# Altium footprint library LC12S.PcbLib: 7 footprints
Each footprint in its own frame and in the unit in brackets; x right, y up, seen from the top. Pads: shape width x height; smd on the part's side, far side on the other; paste and mask are expansions set on the pad; w line width, h text height; cw(c..) or ccw(c..) is an arc to the next point about the centre after c.
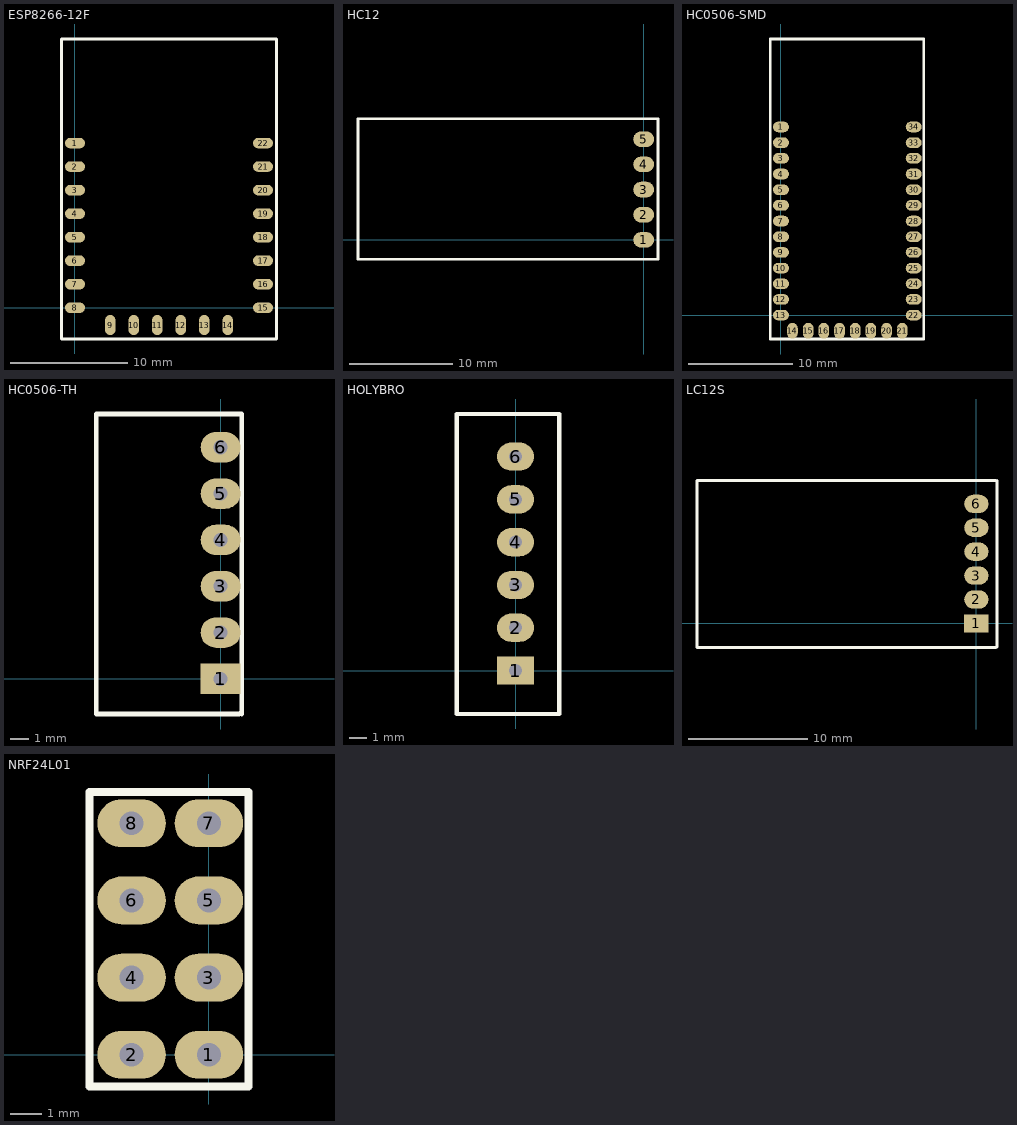
[diagram p0: the footprints below, top view; thin cyan lines are the x and y axes]

## ESP8266-12F [mm]
pads (22):
  oval 1.7x0.9 smd: 1(0,14) 2(0,12) 3(0,10) 4(0,8) 5(0,6) 6(0,4) 7(0,2) 8(0,0) 15(16,0) 16(16,2) 17(16,4) 18(16,6) 19(16,8) 20(16,10) 21(16,12) 22(16,14)
  oval 0.9x1.7 smd: 9(3,-1.48) 10(5,-1.48) 11(7,-1.48) 12(9,-1.48) 13(11,-1.48) 14(13,-1.48)
Top Overlay:
  lines w0.254: -1.143,-2.667 -1.143,22.86 17.145,22.86 17.145,-2.667 -1.143,-2.667
3D body "EPS8266 ESP-12F.STEP": height 2.65, standoff -0.04, extent -0.004,-1.591 16.006,22.414
3D body: height 0.25, standoff 0, extent 3.175,13.716 3.175,13.716

## HC12 [mil]
pads (5):
  oval 80x60 smd: 1(0,0) 2(0,96.46) 3(0,192.91) 4(0,289.37) 5(0,385.83)
Top Overlay:
  lines w10: -1095,-75 -1095,465 55,465 55,-75 40,-75 -1095,-75
3D body "HC-12 SI4463 WIRELESS SERIAL MODULE.STEP": height 1019.68, standoff 0, extent -1089.12,-66.81 1.34,456.81
3D body: height 10, standoff 0, extent -220,320 -220,320
3D body: height 10, standoff 0, extent -230,335 -230,335
3D body: height 10, standoff 0, extent 10,10 10,10
3D body: height 10, standoff 0, extent -880,440 -880,440
3D body: height 10, standoff 0, extent -975,455 -975,455

## HC0506-SMD [mil]
pads (34):
  oval 60x40 smd: 1(0,708.66) 2(0,649.61) 3(0,590.55) 4(0,531.5) 5(0,472.44) 6(0,413.39) 7(0,354.33) 8(0,295.28) 9(0,236.22) 10(0,177.17) 11(0,118.11) 12(0,59.06) 13(0,0) 22(500,0) 23(500,59.06) 24(500,118.11) 25(500,177.17) 26(500,236.22) 27(500,295.28) 28(500,354.33) 29(500,413.39) 30(500,472.44) 31(500,531.5) 32(500,590.55) 33(500,649.61) 34(500,708.66)
  oval 40x60 smd: 14(43.31,-59.06) 15(102.36,-59.06) 16(161.42,-59.06) 17(220.47,-59.06) 18(279.53,-59.06) 19(338.58,-59.06) 20(397.64,-59.06) 21(456.69,-59.06)
Top Overlay:
  lines w10: -40,-90 537.5,-90 537.5,1032.5 537.5,1040 -25,1040 -40,1040 -40,-90
3D body "Bluetooth HC-06_.STEP": height 92.52, standoff 0, extent -26.97,-71.38 525,1031.38

## HC0506-TH [mil]
pads (6):
  rect 85x65 hole 30: 1(0,0)
  oval 85x65 hole 30: 2(0,98.82) 3(0,197.64) 4(0,296.46) 5(0,395.28) 6(0,494.09)
Top Overlay:
  lines w10: -265,-75 -265,565 45,565 45,-75 45,-70 40,-75 -265,-75
3D body: height 10, standoff 0, extent -325,480 -325,480
3D body "HC-05.STEP": height 1437.01, standoff -239.5, extent -259.37,-69.95 -1.5,559.97

## HOLYBRO [mil]
pads (6):
  rect 85x65 hole 30: 1(0,0)
  oval 85x65 hole 30: 2(0,98.43) 3(0,196.85) 4(0,295.28) 5(0,393.7) 6(0,492.13)
Top Overlay:
  lines w10: -135,-100 -135,590 100,590 100,-100 -135,-100
3D body "JST - XH - Thru (V) - 6Pin - 2.54mm.stp": height 284, standoff -118, extent -130,-97 100,587

## LC12S [mil] "HS000895"
pads (6):
  rect 80x60 smd: 1(0,0)
  oval 80x60 smd: 2(0,78.74) 3(0,157.48) 4(0,236.22) 5(0,314.96) 6(0,393.7)
Top Layer:
  pour cut-out: 0,0
Top Overlay:
  lines w10: 62.32,470 -920,470 -920,-78.74 64.02,-78.74 64.02,-78.08 67.93,-78.08 67.93,470
Keep-Out Layer:
  region: 30,185
  region: -850,455
3D body: height 10, standoff 0, extent -830,440 -830,440
3D body: height 10, standoff 0, extent -850,455 -850,455
3D body: height 10, standoff 0, extent -560,325 -560,325
3D body: height 10, standoff 0, extent -850,455 -850,455
3D body "LC12S.STEP": height 78.74, standoff 0, extent -913.31,-73.08 4.02,466.29

## NRF24L01 [mil]
pads (8):
  oval 86x60 hole 30: 1(0,0) 2(-96.85,0) 3(0,96.85) 4(-96.85,96.85) 5(0,193.7) 6(-96.85,193.7) 7(0,290.55) 8(-96.85,290.55)
Top Overlay:
  lines w10: -150,-40 50,-40 50,330 -150,330 -150,-40
3D body "NRF24l01_with_antenna.STEP": height 3679.07, standoff -206.3, extent -2826.3,-160.19 87.09,440.2
3D body: height 10, standoff 0, extent -350,250 -350,250
3D body: height 10, standoff 0, extent -350,250 -350,250